# EAGLE library part AS-ITM-00275 (library tinycircuits)
BLUETOOTH MODULE ST
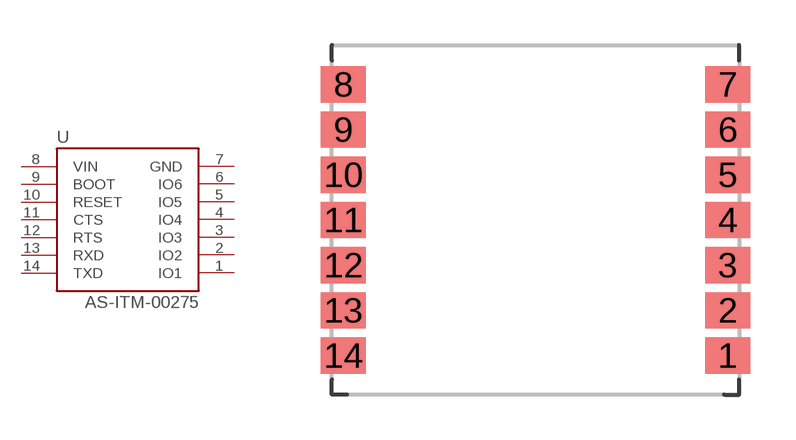
[diagram p111: symbol with the pads of SPBT2632C2A; footprint SPBT2632C2A]

Designator prefix U

## AS-ITM-00275 (PARTNO: AS-ITM-00275; VALUE: SPBT2632C2A)  [SPBT2632C2A]
1  IO1
2  IO2
3  IO3
4  IO4
5  IO5
6  IO6
7  GND
8  VIN
9  BOOT
10  RESET
11  CTS
12  RTS
13  RXD
14  TXD

## Footprint SPBT2632C2A (pad centres in mm)
smd 1.5 x 1.2: 1 6.37,-4.5; 2 6.37,-3; 3 6.37,-1.5; 4 6.37,0; 5 6.37,1.5; 6 6.37,3; 7 6.37,4.5; 8 -6.37,4.5; 9 -6.37,3; 10 -6.37,1.5; 11 -6.37,0; 12 -6.37,-1.5; 13 -6.37,-3; 14 -6.37,-4.5